# EAGLE library part MCP73833/4 (library microchip2)
Stand-Alone Linear Li-Ion / Li-Polymer Charge Management Controller
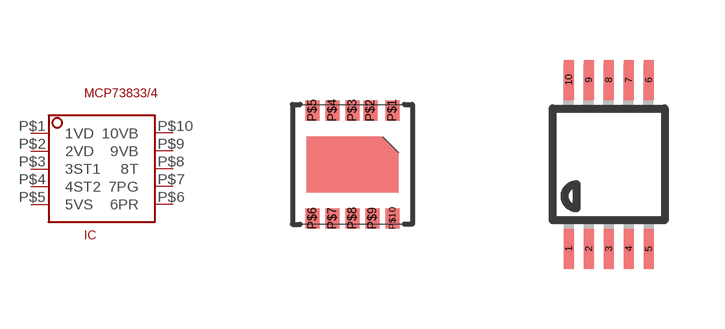
[diagram p144: symbol with the pads of DFN10-3X3; footprints DFN10-3X3, MSOP10]

Designator prefix IC

## MCP73833/4  [DFN10-3X3]
P$1  1VD  pwr
P$2  2VD  pwr
P$3  3ST1
P$4  4ST2
P$5  5VS  pwr
P$6  6PR
P$7  7PG
P$8  8T
P$9  9VB  pwr
P$10  10VB  pwr

## MCP73833/4MSOP10  [MSOP10]
1  1VD  pwr
2  2VD  pwr
3  3ST1
4  4ST2
5  5VS  pwr
6  6PR
7  7PG
8  8T
9  9VB  pwr
10  10VB  pwr

## Footprint DFN10-3X3 (pad centres in mm)
smd 0.35 x 0.5: P$1 1,1.35; P$2 0.45,1.35; P$3 0,1.35; P$4 -0.5,1.35; P$5 -1,1.35; P$6 -1,-1.35; P$7 -0.5,-1.35; P$8 0,-1.35; P$9 0.5,-1.35; P$10 1,-1.35

## Footprint MSOP10 (pad centres in mm)
10-Lead Mini Small Outline Package [MSOP] (RM-10) Source: http://www.analog.com/UploadedFiles/Data_Sheets/35641221898805SSM2167_b.pdf COMPLIANT TO JEDEC STANDARDS MO-187BA
smd 0.25 x 1: 1 -1,-2.113; 2 -0.5,-2.113; 3 0,-2.113; 4 0.5,-2.113; 5 1,-2.113; 6 1,2.113; 7 0.5,2.113; 8 0,2.113; 9 -0.5,2.113; 10 -1,2.113